# EAGLE library part THS4222 (library op-amp)
OP-AMP
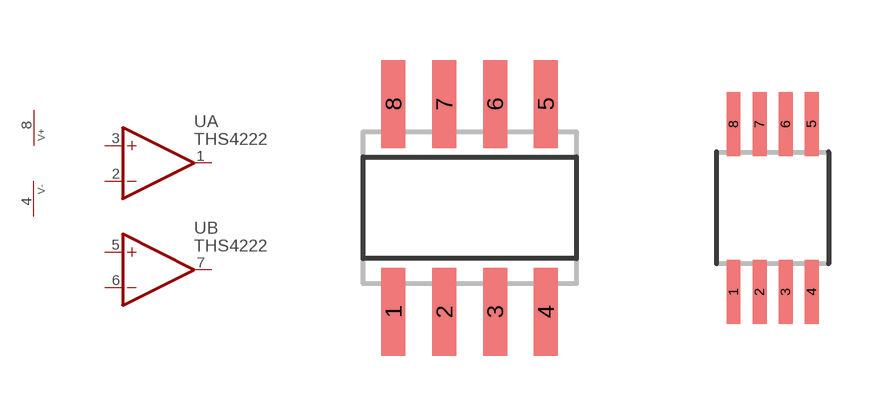
[diagram p63: symbol with the pads of SO08; footprints SO08, MSOP08-POWERPAD]

Designator prefix U; gates A=OPAMP_NV B=OPAMP_NV P=PWR+-

## THS4222D (MOUSER: 595-THS4222D; P1I: o)  [SO08]
1  A:OUT  out
2  A:-IN  in
3  A:+IN  in
4  P:V-  pwr
5  B:+IN  in
6  B:-IN  in
7  B:OUT  out
8  P:V+  pwr

## THS4222DGN (P1I: o)  [MSOP08-POWERPAD]
Pads as for SO08

## Footprint SO08 (pad centres in mm)
SMALL OUTLINE INTEGRATED CIRCUIT body 3.9 mm/JEDEC MS-012AA
smd 0.6 x 2.2: 1 -1.905,-2.6; 2 -0.635,-2.6; 3 0.635,-2.6; 4 1.905,-2.6; 5 1.905,2.6; 6 0.635,2.6; 7 -0.635,2.6; 8 -1.905,2.6

## Footprint MSOP08-POWERPAD (pad centres in mm)
MSOP 8 - PowerPAD pitch 0.65 mm, DGN package Texas Instruments
smd 0.35 x 1.6: 1 -0.975,-2.1; 2 -0.325,-2.1; 3 0.325,-2.1; 4 0.975,-2.1; 5 0.975,2.1; 6 0.325,2.1; 7 -0.325,2.1; 8 -0.975,2.1